# EAGLE library part MDBT42 (library MDBT42)
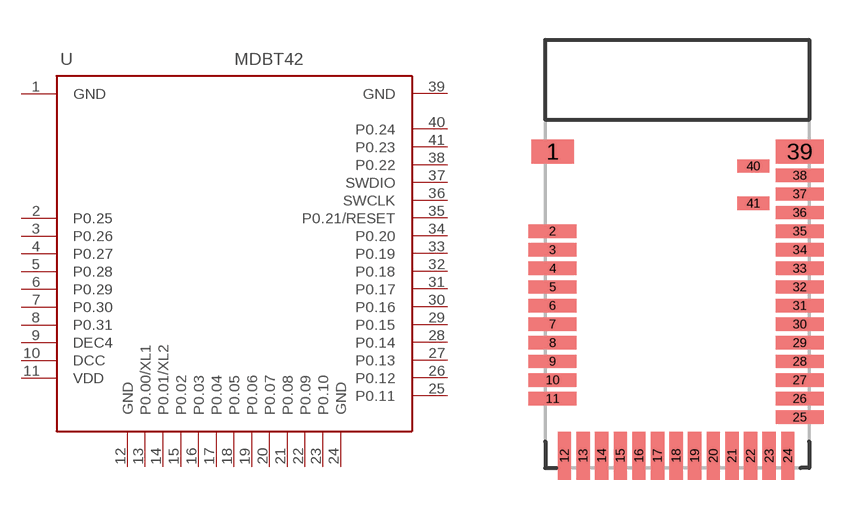
[diagram p0: symbol with the pads of MDBT42; footprint MDBT42]

Designator prefix -

## MDBT42SMD  [MDBT42]
1  GND
2  P0.25
3  P0.26
4  P0.27
5  P0.28
6  P0.29
7  P0.30
8  P0.31
9  DEC4
10  DCC
11  VDD
12  GND
13  P0.00/XL1
14  P0.01/XL2
15  P0.02
16  P0.03
17  P0.04
18  P0.05
19  P0.06
20  P0.07
21  P0.08
22  P0.09
23  P0.10
24  GND
25  P0.11
26  P0.12
27  P0.13
28  P0.14
29  P0.15
30  P0.16
31  P0.17
32  P0.18
33  P0.19
34  P0.20
35  P0.21/RESET
36  SWCLK
37  SWDIO
38  P0.22
39  GND
40  P0.24
41  P0.23

## Footprint MDBT42 (pad centres in mm)
smd 1.6 x 0.9: 1 0.35,11.8
smd 1.8 x 0.5: 2 0.35,8.8; 3 0.35,8.1; 4 0.35,7.4; 5 0.35,6.7; 6 0.35,6; 7 0.35,5.3; 8 0.35,4.6; 9 0.35,3.9; 10 0.35,3.2; 11 0.35,2.5; 25 9.65,1.8; 26 9.65,2.5; 27 9.65,3.2; 28 9.65,3.9; 29 9.65,4.6; 30 9.65,5.3; 31 9.65,6; 32 9.65,6.7; 33 9.65,7.4; 34 9.65,8.1; 35 9.65,8.8; 36 9.65,9.5; 37 9.65,10.2; 38 9.65,10.9
smd 0.5 x 1.8: 12 0.8,0.35; 13 1.5,0.35; 14 2.2,0.35; 15 2.9,0.35; 16 3.6,0.35; 17 4.3,0.35; 18 5,0.35; 19 5.7,0.35; 20 6.4,0.35; 21 7.1,0.35; 22 7.8,0.35; 23 8.5,0.35; 24 9.2,0.35
smd 1.8 x 0.9: 39 9.65,11.8
smd 1.2 x 0.5: 40 7.9,11.25; 41 7.9,9.85